# Altium schematic symbol library CONN-AAPL-RF-PADS-EXP.Schlib: 1 symbol
Pins are listed as number, name and electrical type; pins without a type are passive.

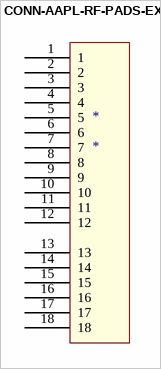
[diagram p0: symbol CONN-AAPL-RF-PADS-EXP]

## CONN-AAPL-RF-PADS-EXP
designator *
pins: 1, 2, 3, 4, 5, 6, 7, 8, 9, 10, 11, 12, 13, 14, 15, 16, 17, 18